# Altium schematic symbol library Schlib.SchLib: 4 symbols
Pins are listed as number, name and electrical type; pins without a type are passive.

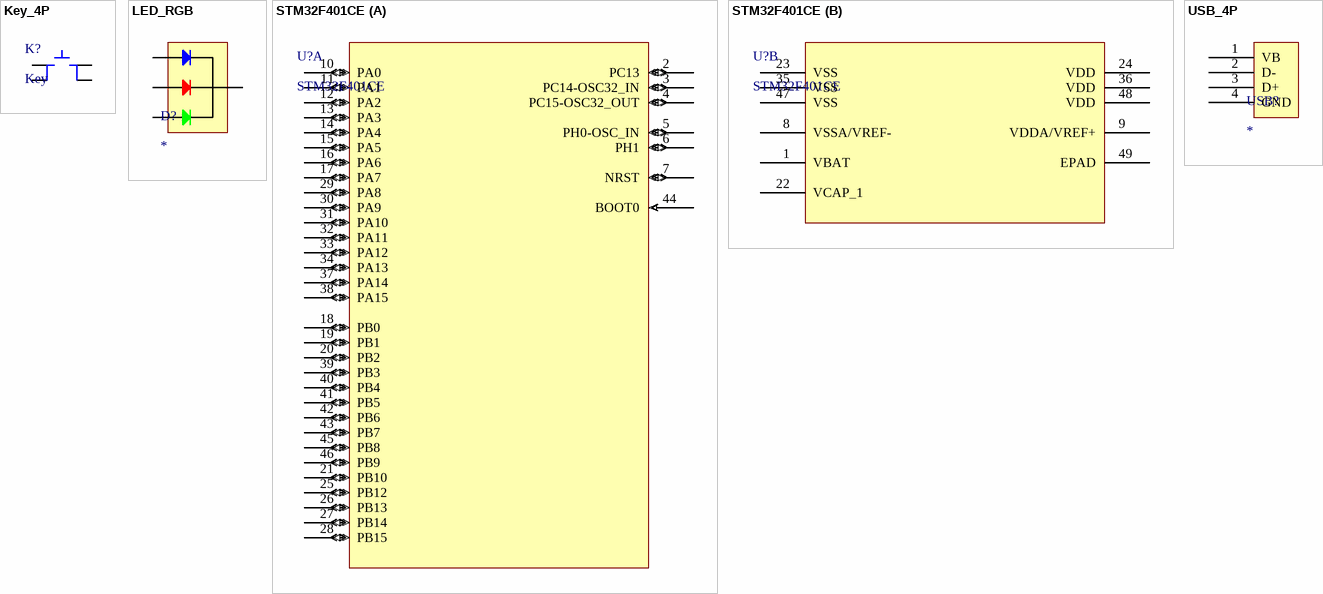
[diagram p0: symbols Key_4P to USB_4P]

## Key_4P
designator K?, comment Key
footprint Key_4x4_4P
pins: 1, 2, 3, 4

## LED_RGB
designator D?
footprint LED_RGB_0606
pins: 1 COM, 2 R, 3 G, 4 B

## STM32F401CE
designator U?
带DSP和FPU的高性能基本型系列ARM Cortex-M4 MCU，具有512 KB Flash、84 MHz CPU和ART加速器; Manufacturer_Part_Number: stm32f4xxc1; Vendor: STMicroelectronics; Copyright: Copyright (C) 2016 Accelerated Designs. All rights reserved; RefDes: RefDes; Type: DEV; Value: Value
footprint UFQFPN-48_7X7_L
footprint UFQFPN-48_7X7_M
footprint UFQFPN-48_7X7_N
part A pins: 2 PC13 (io), 3 PC14-OSC32_IN (io), 4 PC15-OSC32_OUT (io), 5 PH0-OSC_IN (io), 6 PH1 (io), 7 NRST (io), 10 PA0 (io), 11 PA1 (io), 12 PA2 (io), 13 PA3 (io), 14 PA4 (io), 15 PA5 (io), 16 PA6 (io), 17 PA7 (io), 18 PB0 (io), 19 PB1 (io), 20 PB2 (io), 21 PB10 (io), 25 PB12 (io), 26 PB13 (io), 27 PB14 (io), 28 PB15 (io), 29 PA8 (io), 30 PA9 (io), 31 PA10 (io), 32 PA11 (io), 33 PA12 (io), 34 PA13 (io), 37 PA14 (io), 38 PA15 (io), 39 PB3 (io), 40 PB4 (io), 41 PB5 (io), 42 PB6 (io), 43 PB7 (io), 44 BOOT0 (in), 45 PB8 (io), 46 PB9 (io)
part B pins: 1 VBAT (power), 8 VSSA/VREF- (power), 9 VDDA/VREF+ (power), 22 VCAP_1 (power), 23 VSS (power), 24 VDD (power), 35 VSS (power), 36 VDD (power), 47 VSS (power), 48 VDD (power), 49 EPAD

## USB_4P
designator USB?
footprint USB_A_Male
pins: 1 VB, 2 D-, 3 D+, 4 GND